# EAGLE library part SERIAL-FLASH-MEM-DUAL-IO (library FlashPCB_ICs)
SERIAL-FLASH-MEM-DUAL-IO - 16MBIT SPI Microcontroller/Dual 8-SOIC Technical Specifications: Memory Interface: SPI - Dual I/O Clock Frequency: 65 MHz Write Cycle Time: 5ms Voltage - Supply: 2.7V ~ 3.6V Operating Temperature: -40°C ~ 85°C (TA) Component Search: S25FL216K <https://www.flashpcb.com/components> Datasheet: S25FL216K <https://www.infineon.com/dgdl/Infineon-S25FL216K_16-Mbit_3.0_V_Serial_Flash_Memory_with_Uniform_4_kB_Sectors_Datasheet-AdditionalTechnicalInformation-v12_00-EN.pdf?fileId=8ac78c8c7d0d8da4017d0ed5142053e0&utm_source=cypress&utm_medium=referral&utm_campaign>
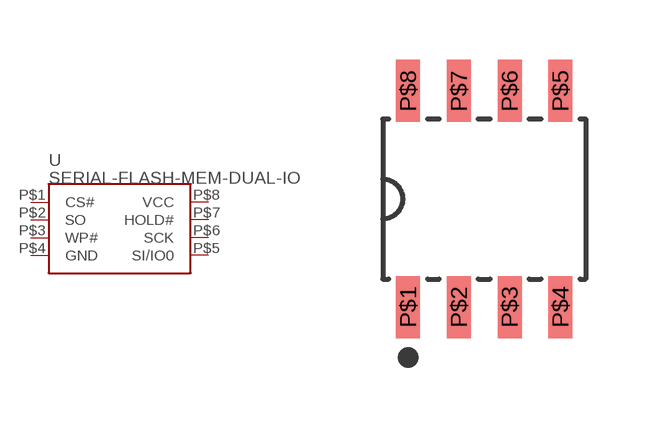
[diagram p77: symbol with the pads of SOIC-8-150MIL-3.9MM; footprint SOIC-8-150MIL-3.9MM]

Designator prefix -

## SERIAL-FLASH-MEM-DUAL-IO  [SOIC-8-150MIL-3.9MM]
P$1  CS#
P$2  SO
P$3  WP#
P$4  GND
P$5  SI/IO0
P$6  SCK
P$7  HOLD#
P$8  VCC  oc

## Footprint SOIC-8-150MIL-3.9MM (pad centres in mm)
smd 0.6 x 1.55: P$1 -1.905,-2.7; P$2 -0.635,-2.7; P$3 0.635,-2.7; P$4 1.905,-2.7; P$5 1.905,2.7; P$6 0.635,2.7; P$7 -0.635,2.7; P$8 -1.905,2.7